# Altium footprint library PCB1.PcbLib: 19 footprints (part 2 of 2)
Each footprint in its own frame and in the unit in brackets; x right, y up, seen from the top. Pads: shape width x height; smd on the part's side, far side on the other; paste and mask are expansions set on the pad; w line width, h text height; cw(c..) or ccw(c..) is an arc to the next point about the centre after c.
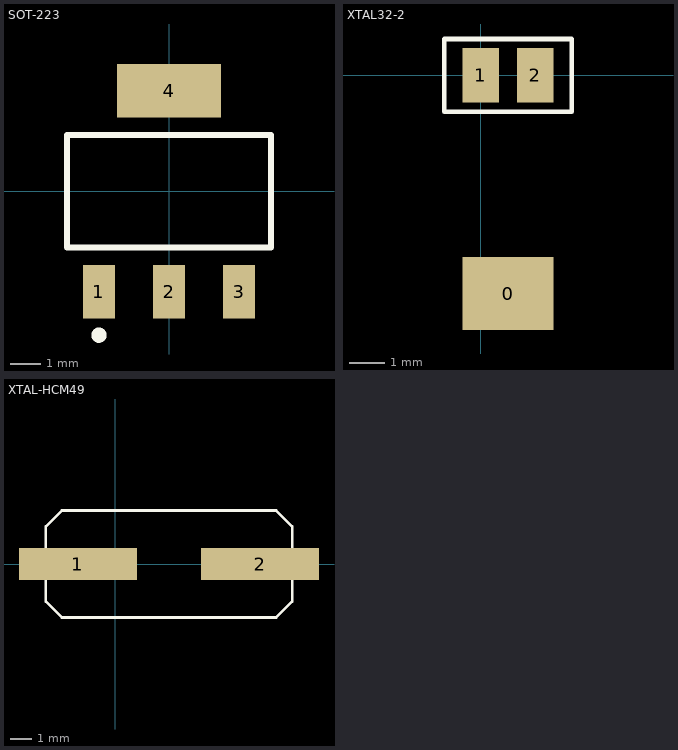
[diagram p1: the footprints below, top view; thin cyan lines are the x and y axes]

## SOT-223 [mm] "SOT-223/SC-73; 4 Leads; Body 6.7 x 7.3 mm, inc. leads (LxW max)"
height 1.8
pads (4):
  rect 1.05x1.75 smd: 1(-2.3,-3.3) 2(0,-3.3) 3(2.3,-3.3)
  rect 3.4x1.75 smd: 4(0,3.3)
Top Overlay:
  circle w0.25: c-2.3,-4.725 r0.125
  lines w0.2: -3.35,-1.85 -3.35,1.85 3.35,1.85 3.35,-1.85 -3.35,-1.85

## XTAL32-2 [mil]
pads (3):
  rect 100x80 smd: 0(30,-240)
  rect 40x60 smd: 1(0,0) 2(60,0)
Top Overlay:
  lines w5: -40,-40 -40,40 100,40 100,-40 -40,-40

## XTAL-HCM49 [mil]
pads (2):
  rect 220x60 smd: 1(-70,0) 2(270,0)
Top Overlay:
  lines w5: -130,-70 -130,70 -100,100 300,100 330,70 330,-70 300,-100 -100,-100 -130,-70
3D body: height 0, standoff 0, extent -184,-102.5 384,102.5
3D body: height 0, standoff 0, extent -130.02,-70.02 -130.01,-70.01